# EAGLE library part EXP1.3-B (library usb-fpga-1)
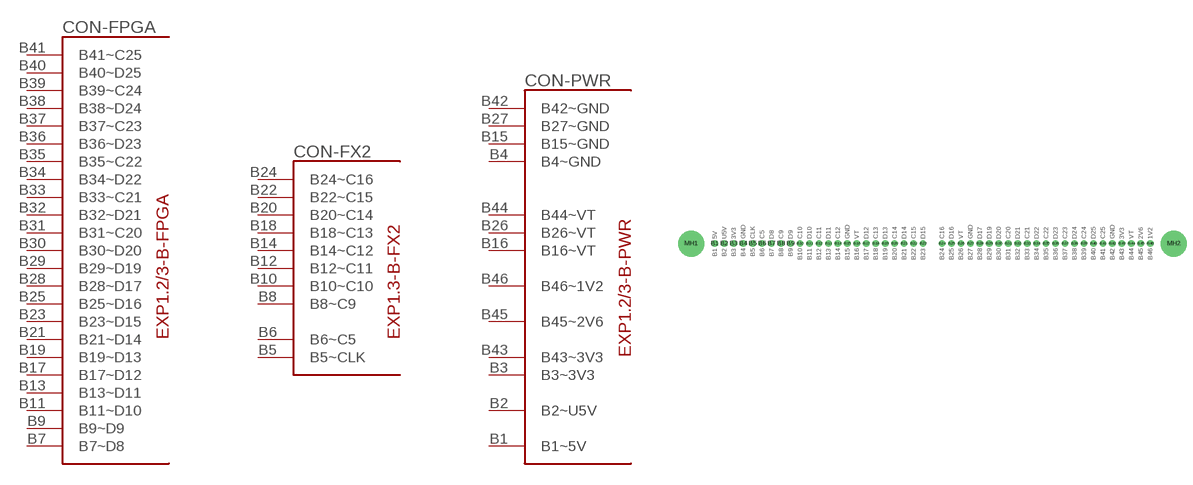
[diagram p14: symbol with the pads of EXP1.3-B; footprint EXP1.3-B]

Designator prefix CON; gates -FPGA=EXP1.2-B-FPGA -FX2=EXP1.3-B-FX2 -PWR=EXP1.2-B-PWR

## EXP1.3-B  [EXP1.3-B]
B1  -PWR:B1~5V
B2  -PWR:B2~U5V
B3  -PWR:B3~3V3
B4  -PWR:B4~GND
B5  -FX2:B5~CLK
B6  -FX2:B6~C5
B7  -FPGA:B7~D8
B8  -FX2:B8~C9
B9  -FPGA:B9~D9
B10  -FX2:B10~C10
B11  -FPGA:B11~D10
B12  -FX2:B12~C11
B13  -FPGA:B13~D11
B14  -FX2:B14~C12
B15  -PWR:B15~GND
B16  -PWR:B16~VT
B17  -FPGA:B17~D12
B18  -FX2:B18~C13
B19  -FPGA:B19~D13
B20  -FX2:B20~C14
B21  -FPGA:B21~D14
B22  -FX2:B22~C15
B23  -FPGA:B23~D15
B24  -FX2:B24~C16
B25  -FPGA:B25~D16
B26  -PWR:B26~VT
B27  -PWR:B27~GND
B28  -FPGA:B28~D17
B29  -FPGA:B29~D19
B30  -FPGA:B30~D20
B31  -FPGA:B31~C20
B32  -FPGA:B32~D21
B33  -FPGA:B33~C21
B34  -FPGA:B34~D22
B35  -FPGA:B35~C22
B36  -FPGA:B36~D23
B37  -FPGA:B37~C23
B38  -FPGA:B38~D24
B39  -FPGA:B39~C24
B40  -FPGA:B40~D25
B41  -FPGA:B41~C25
B42  -PWR:B42~GND
B43  -PWR:B43~3V3
B44  -PWR:B44~VT
B45  -PWR:B45~2V6
B46  -PWR:B46~1V2

## Footprint EXP1.3-B (pad centres in mm)
drill 1.2 round: B1 0,0; B2 2.54,0; B3 5.08,0; B4 7.62,0; B5 10.16,0; B6 12.7,0; B7 15.24,0; B8 17.78,0; B9 20.32,0; B10 22.86,0; B11 25.4,0; B12 27.94,0; B13 30.48,0; B14 33.02,0; B15 35.56,0; B16 38.1,0; B17 40.64,0; B18 43.18,0; B19 45.72,0; B20 48.26,0; B21 50.8,0; B22 53.34,0; B23 55.88,0; B24 60.96,0; B25 63.5,0; B26 66.04,0; B27 68.58,0; B28 71.12,0; B29 73.66,0; B30 76.2,0; B31 78.74,0; B32 81.28,0; B33 83.82,0; B34 86.36,0; B35 88.9,0; B36 91.44,0; B37 93.98,0; B38 96.52,0; B39 99.06,0; B40 101.6,0; B41 104.14,0; B42 106.68,0; B43 109.22,0; B44 111.76,0; B45 114.3,0; B46 116.84,0
drill 3.2 pad 7 round: MH1 -6.35,0; MH2 123.19,0